# Altium footprint library TPS55288RPMR.PcbLib: 1 footprints
Each footprint in its own frame and in the unit in brackets; x right, y up, seen from the top. Pads: shape width x height; smd on the part's side, far side on the other; paste and mask are expansions set on the pad; w line width, h text height; cw(c..) or ccw(c..) is an arc to the next point about the centre after c.
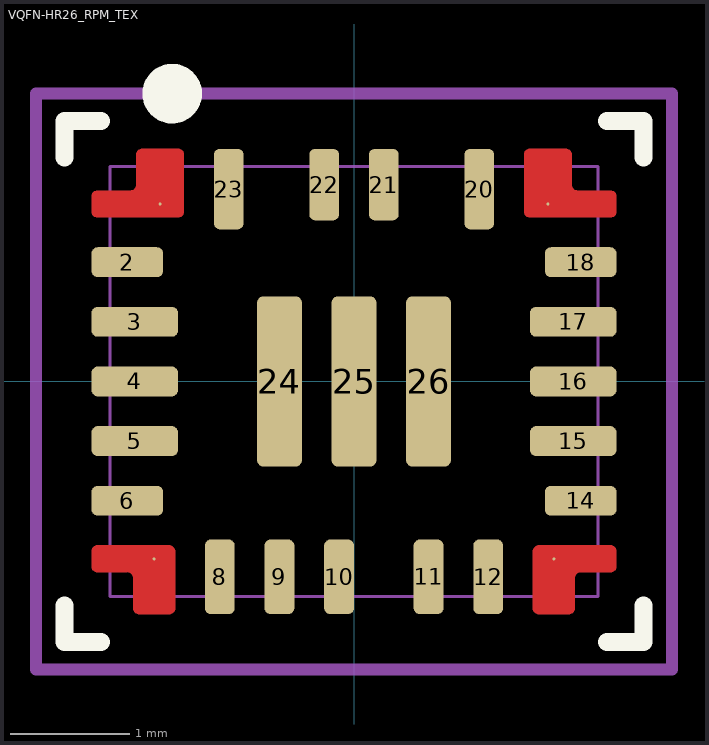
[diagram p0: the footprint, top view; thin cyan lines are the x and y axes]

## VQFN-HR26_RPM_TEX [mm]
pads (26):
  round 0.025 smd: 1(-1.625,1.488) 7(-1.675,-1.488) 13(1.675,-1.488) 19(1.625,1.488)
  rrect40% 0.6x0.25 smd: 2(-1.9,1) 6(-1.9,-1) 14(1.9,-1) 18(1.9,1)
  rrect40% 0.725x0.25 smd: 3(-1.837,0.5) 4(-1.837,0) 5(-1.837,-0.5) 15(1.837,-0.5) 16(1.837,0) 17(1.837,0.5)
  rrect40% 0.25x0.625 smd: 8(-1.125,-1.637) 9(-0.625,-1.637) 10(-0.125,-1.637) 11(0.625,-1.637) 12(1.125,-1.637)
  rrect40% 0.25x0.675 smd: 20(1.05,1.613) 23(-1.05,1.613)
  rrect40% 0.25x0.6 smd: 21(0.25,1.65) 22(-0.25,1.65)
  rrect26% 0.375x1.425 smd: 24(-0.625,0) 25(0,0) 26(0.625,0)
Top Layer:
  region: -2.15,-1.6 -2.16,-1.6 -2.178,-1.592 -2.192,-1.578 -2.2,-1.56 -2.2,-1.55 -2.2,-1.425 -2.2,-1.415 -2.192,-1.397 -2.178,-1.383 -2.16,-1.375 -2.15,-1.375 -1.55,-1.375 -1.54,-1.375 -1.522,-1.383 -1.508,-1.397 -1.5,-1.415 -1.5,-1.425 -1.5,-1.9 -1.5,-1.91 -1.508,-1.928 -1.522,-1.942 -1.54,-1.95 -1.55,-1.95 -1.8,-1.95 -1.81,-1.95 -1.828,-1.942 -1.842,-1.928 -1.85,-1.91 -1.85,-1.9 -1.85,-1.65 -1.851,-1.64 -1.858,-1.622 -1.872,-1.608 -1.89,-1.601 -1.9,-1.6
  region: 1.425,1.425 1.425,1.9 1.425,1.91 1.433,1.928 1.447,1.942 1.465,1.95 1.475,1.95 1.775,1.95 1.785,1.95 1.803,1.942 1.817,1.928 1.825,1.91 1.825,1.9 1.825,1.65 1.826,1.64 1.833,1.622 1.847,1.608 1.865,1.601 1.875,1.6 2.15,1.6 2.16,1.6 2.178,1.592 2.192,1.578 2.2,1.56 2.2,1.55 2.2,1.425 2.2,1.415 2.192,1.397 2.178,1.383 2.16,1.375 2.15,1.375 1.475,1.375 1.465,1.375 1.447,1.383 1.433,1.397 1.425,1.415
  region: 1.5,-1.9 1.5,-1.91 1.508,-1.928 1.522,-1.942 1.54,-1.95 1.55,-1.95 1.8,-1.95 1.81,-1.95 1.828,-1.942 1.842,-1.928 1.85,-1.91 1.85,-1.9 1.85,-1.65 1.851,-1.64 1.858,-1.622 1.872,-1.608 1.89,-1.601 1.9,-1.6 2.15,-1.6 2.16,-1.6 2.178,-1.592 2.192,-1.578 2.2,-1.56 2.2,-1.55 2.2,-1.425 2.2,-1.415 2.192,-1.397 2.178,-1.383 2.16,-1.375 2.15,-1.375 1.55,-1.375 1.54,-1.375 1.522,-1.383 1.508,-1.397 1.5,-1.415 1.5,-1.425
  region: -2.2,1.425 -2.2,1.55 -2.2,1.56 -2.192,1.578 -2.178,1.592 -2.16,1.6 -2.15,1.6 -1.875,1.6 -1.865,1.601 -1.847,1.608 -1.833,1.622 -1.826,1.64 -1.825,1.65 -1.825,1.9 -1.825,1.91 -1.817,1.928 -1.803,1.942 -1.785,1.95 -1.775,1.95 -1.475,1.95 -1.465,1.95 -1.447,1.942 -1.433,1.928 -1.425,1.91 -1.425,1.9 -1.425,1.425 -1.425,1.415 -1.433,1.397 -1.447,1.383 -1.465,1.375 -1.475,1.375 -2.15,1.375 -2.16,1.375 -2.178,1.383 -2.192,1.397 -2.2,1.415
Top Overlay:
  circle w0.25: c-1.524,2.413 r0.125
  lines w0.152: -2.426,-1.88 -2.426,-2.184 -2.121,-2.184 ; -2.426,1.88 -2.426,2.184 -2.121,2.184 ; 2.121,-2.184 2.426,-2.184 2.426,-1.88 ; 2.121,2.184 2.426,2.184 2.426,1.88
Mechanical 13:
  lines w0.025: -2.045,-1.803 -2.045,1.803 2.045,1.803 2.045,-1.803 -2.045,-1.803
Mechanical 15:
  lines w0.1: -2.667,-2.413 -2.667,2.413 2.667,2.413 2.667,-2.413 -2.667,-2.413
3D body "RPM0026A.stp": height 1, standoff 0, extent -2,-1.75 2,1.75